# Altium integrated library 22-28-4033.IntLib: 1 symbol
Pins are listed as number, name and electrical type; pins without a type are passive.

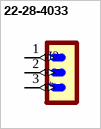
[diagram p0: symbol 22-28-4033]

## 22-28-4033
designator J?
Conn.; Rect./PCB; Header; 3 Cir.; Vertical; KK/254 Series; Gold Plating | Molex Incorporated 22-28-4033; SnapEDA_Link: https://www.snapeda.com/parts/22-28-4033/Molex/view-part/?ref=snap; Package: None; Value: *; MF: Molex; MP: 22-28-4033; Check_prices: https://www.snapeda.com/parts/22-28-4033/Molex/view-part/?ref=eda
footprint 1X03-PIN
pins: 1 (io), 2 (io), 3 (io)